# Altium footprint library PBD-2x16.PcbLib: 1 footprints
Each footprint in its own frame and in the unit in brackets; x right, y up, seen from the top. Pads: shape width x height; smd on the part's side, far side on the other; paste and mask are expansions set on the pad; w line width, h text height; cw(c..) or ccw(c..) is an arc to the next point about the centre after c.
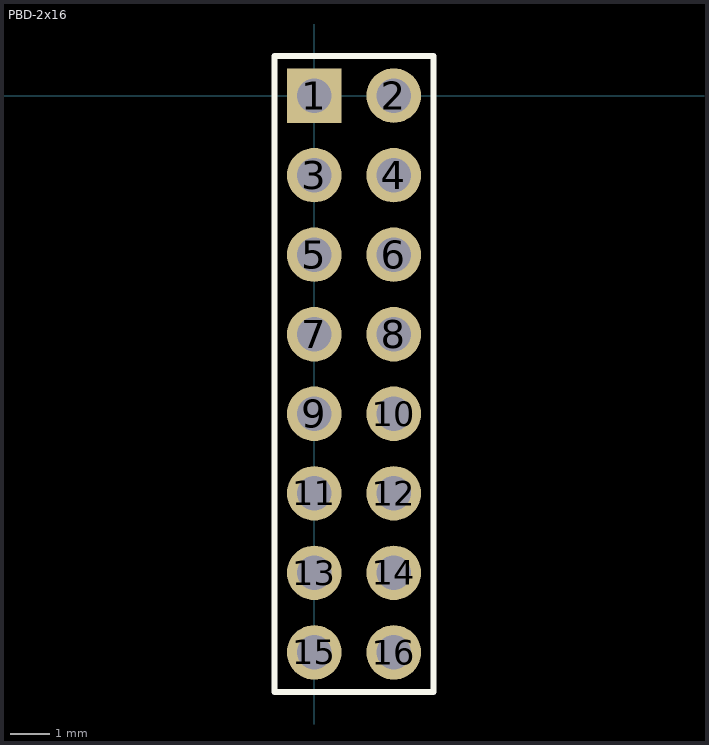
[diagram p0: the footprint, top view; thin cyan lines are the x and y axes]

## PBD-2x16 [mil]
pads (16):
  rect 54x54 hole 34: 1(0,0)
  round 54 hole 34: 2(78.74,0) 3(0,-78.74) 4(78.74,-78.74) 5(0,-157.48) 6(78.74,-157.48) 7(0,-236.22) 8(78.74,-236.22) 9(0,-314.96) 10(78.74,-314.96) 11(0,-393.7) 12(78.74,-393.7) 13(0,-472.44) 14(78.74,-472.44) 15(0,-551.18) 16(78.74,-551.18)
Top Overlay:
  lines w5.91: -39.21,-590.55 117.44,-590.55 ; -39.21,-590 -39.21,39.21 -39.37,39.37 118.11,39.37 118.11,-590.55
3D body "PBD2-16.STEP": height 177.17, standoff -100, extent -39.37,-590.55 118.11,39.37